# Altium schematic symbol library Kanaloa_v2.0.0_Power.SchLib: 7 symbols
Pins are listed as number, name and electrical type; pins without a type are passive.

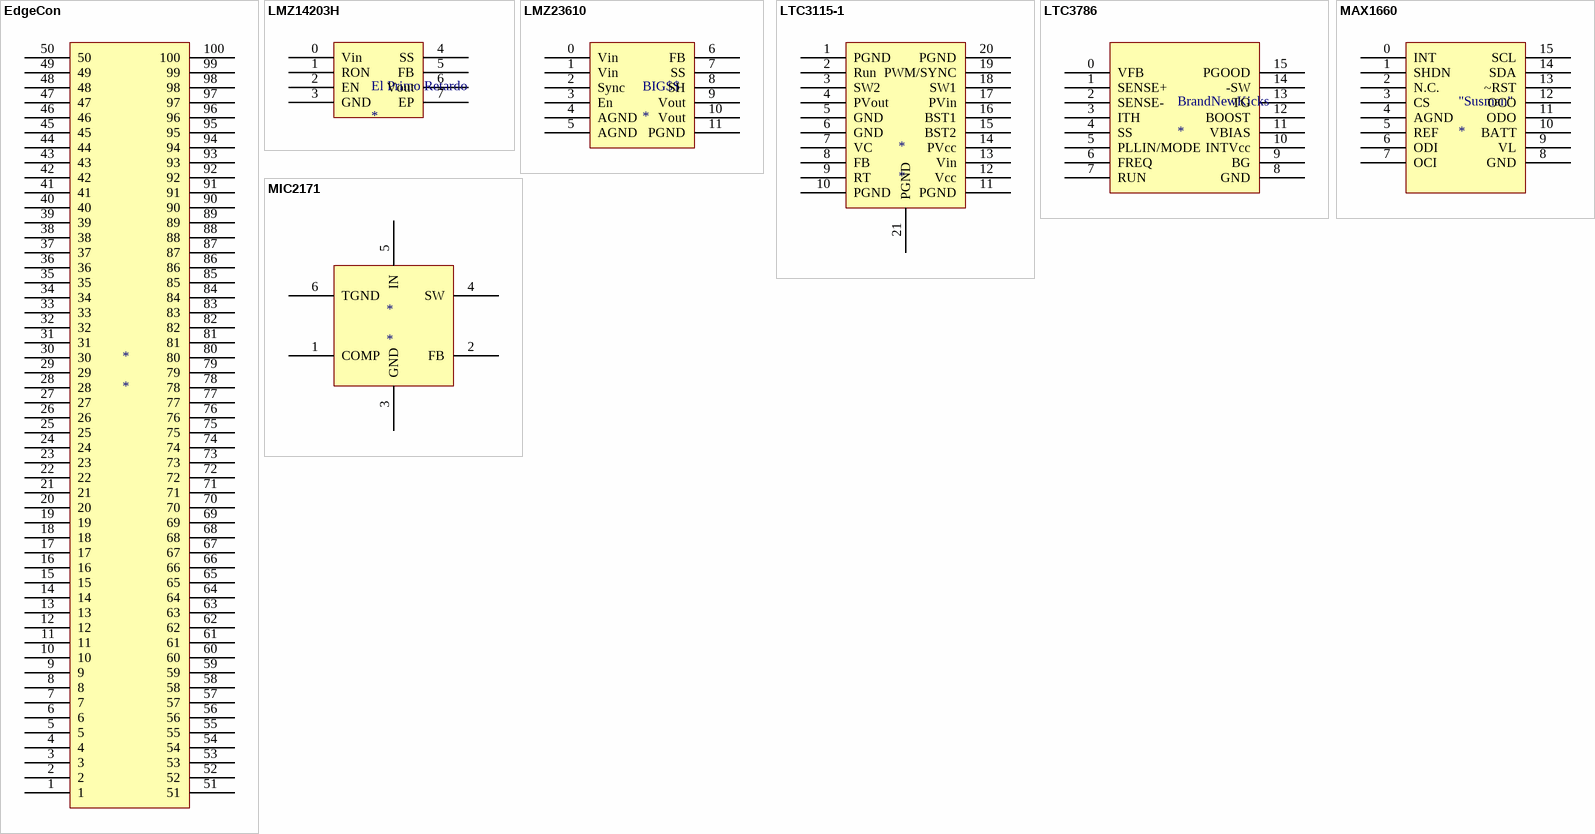
[diagram p0: symbols EdgeCon to MIC2171]

## EdgeCon
designator *
footprint 5645235-3 CON
pins: 1, 2, 3, 4, 5, 6, 7, 8, 9, 10, 11, 12, 13, 14, 15, 16, 17, 18, 19, 20, 21, 22, 23, 24, 25, 26, 27, 28, 29, 30, 31, 32, 33, 34, 35, 36, 37, 38, 39, 40, 41, 42, 43, 44, 45, 46, 47, 48, 49, 50, 51, 52, 53, 54, 55, 56, 57, 58, 59, 60, 61, 62, 63, 64, 65, 66, 67, 68, 69, 70, 71, 72, 73, 74, 75, 76, 77, 78, 79, 80, 81, 82, 83, 84, 85, 86, 87, 88, 89, 90, 91, 92, 93, 94, 95, 96, 97, 98, 99, 100

## LMZ14203H
designator El Primo Retardo
footprint LMZ14203H
pins: 0 Vin, 1 RON, 2 EN, 3 GND, 4 SS, 5 FB, 6 Vout, 7 EP

## LMZ23610
designator BIG$$
footprint LMZ23610
pins: 0 Vin, 1 Vin, 2 Sync, 3 En, 4 AGND, 5 AGND, 6 FB, 7 SS, 8 SH, 9 Vout, 10 Vout, 11 PGND

## LTC3115-1
designator *
footprint LTC3115-1 (TSOP, 20-Leads, Body 6.6x4.5mm (max), Pitch 0.65mm, IPC Medium Density)
pins: 1 PGND, 2 Run, 3 SW2, 4 PVout, 5 GND, 6 GND, 7 VC, 8 FB, 9 RT, 10 PGND, 11 PGND, 12 Vcc, 13 Vin, 14 PVcc, 15 BST2, 16 BST1, 17 PVin, 18 SW1, 19 PWM/SYNC, 20 PGND, 21 PGND

## LTC3786
designator BrandNewKicks
pins: 0 VFB, 1 SENSE+, 2 SENSE-, 3 ITH, 4 SS, 5 PLLIN/MODE, 6 FREQ, 7 RUN, 8 GND, 9 BG, 10 INTVcc, 11 VBIAS, 12 BOOST, 13 TG, 14 -SW, 15 PGOOD

## MAX1660
designator "Susman"
pins: 0 INT, 1 SHDN, 2 N.C., 3 CS, 4 AGND, 5 REF, 6 ODI, 7 OCI, 8 GND, 9 VL, 10 BATT, 11 ODO, 12 OCO, 13 ~RST, 14 SDA, 15 SCL

## MIC2171
designator *
pins: 1 COMP, 2 FB, 3 GND, 4 SW, 5 IN, 6 TGND